# Altium footprint library Analog_Connector.PcbLib: 1 footprints
Each footprint in its own frame and in the unit in brackets; x right, y up, seen from the top. Pads: shape width x height; smd on the part's side, far side on the other; paste and mask are expansions set on the pad; w line width, h text height; cw(c..) or ccw(c..) is an arc to the next point about the centre after c.
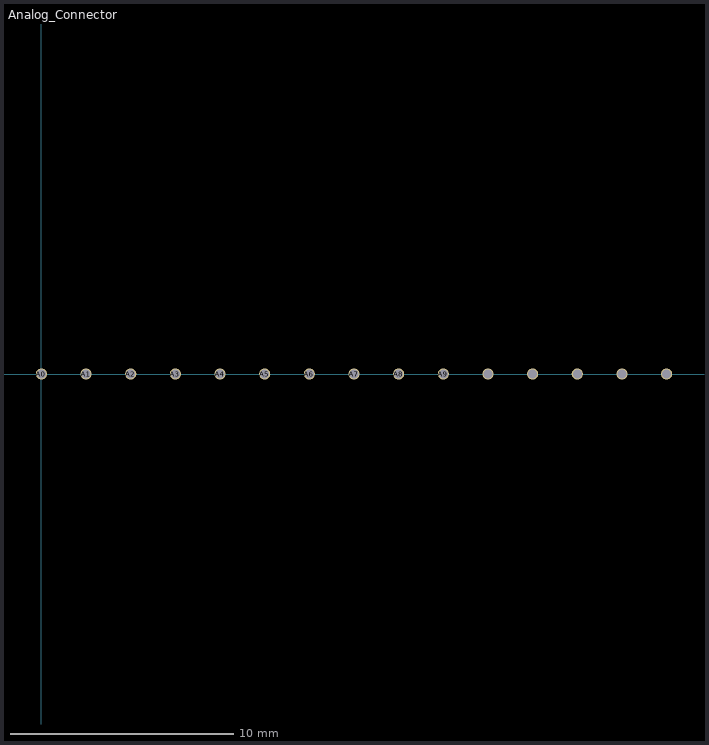
[diagram p0: the footprint, top view; thin cyan lines are the x and y axes]

## Analog_Connector [mm]
pads (15):
  round 0.5 hole 0.4: A0(0,0) A1(2,0) A2(4,0) A3(6,0) A4(8,0) A5(10,0) A6(12,0) A7(14,0) A8(16,0) A9(18,0) A10(20,0) A11(22,0) A12(24,0) A13(26,0) GND(28,0)